# EAGLE library part AD5583YRVZ (library SSv3_1)
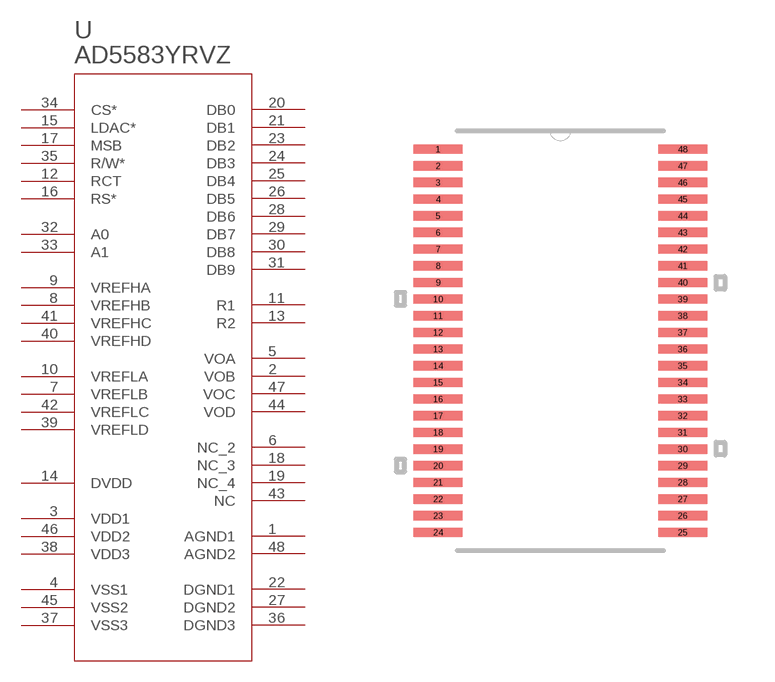
[diagram p12: symbol with the pads of RV_48; footprint RV_48]

Designator prefix U

## AD5583YRVZ (MANUFACTURER_PART_NUMBER: AD5583YRVZ; VENDOR: Vendor)  [RV_48]
1  AGND1  pas
2  VOB  pas
3  VDD1  pwr
4  VSS1  pwr
5  VOA  pas
6  NC_2  pas
7  VREFLB  pas
8  VREFHB  pas
9  VREFHA  pas
10  VREFLA  pas
11  R1  pas
12  RCT  pas
13  R2  pas
14  DVDD  pwr
15  LDAC*  pas
16  RS*  pas
17  MSB  pas
18  NC_3  pas
19  NC_4  pas
20  DB0  pas
21  DB1  pas
22  DGND1  pas
23  DB2  pas
24  DB3  pas
25  DB4  pas
26  DB5  pas
27  DGND2  pas
28  DB6  pas
29  DB7  pas
30  DB8  pas
31  DB9  pas
32  A0  pas
33  A1  pas
34  CS*  pas
35  R/W*  pas
36  DGND3  pas
37  VSS3  pwr
38  VDD3  pwr
39  VREFLD  pas
40  VREFHD  pas
41  VREFHC  pas
42  VREFLC  pas
43  NC  pas
44  VOD  pas
45  VSS2  pwr
46  VDD2  pwr
47  VOC  pas
48  AGND2  pas

## Footprint RV_48 (pad centres in mm)
smd 1.473 x 0.279: 1 -3.67,5.75; 2 -3.67,5.25; 3 -3.67,4.75; 4 -3.67,4.25; 5 -3.67,3.75; 6 -3.67,3.25; 7 -3.67,2.75; 8 -3.67,2.25; 9 -3.67,1.75; 10 -3.67,1.25; 11 -3.67,0.75; 12 -3.67,0.25; 13 -3.67,-0.25; 14 -3.67,-0.75; 15 -3.67,-1.25; 16 -3.67,-1.75; 17 -3.67,-2.25; 18 -3.67,-2.75; 19 -3.67,-3.25; 20 -3.67,-3.75; 21 -3.67,-4.25; 22 -3.67,-4.75; 23 -3.67,-5.25; 24 -3.67,-5.75; 25 3.67,-5.75; 26 3.67,-5.25; 27 3.67,-4.75; 28 3.67,-4.25; 29 3.67,-3.75; 30 3.67,-3.25; 31 3.67,-2.75; 32 3.67,-2.25; 33 3.67,-1.75; 34 3.67,-1.25; 35 3.67,-0.75; 36 3.67,-0.25; 37 3.67,0.25; 38 3.67,0.75; 39 3.67,1.25; 40 3.67,1.75; 41 3.67,2.25; 42 3.67,2.75; 43 3.67,3.25; 44 3.67,3.75; 45 3.67,4.25; 46 3.67,4.75; 47 3.67,5.25; 48 3.67,5.75